# Altium footprint library GRM32ER61A107ME20L.PcbLib: 4 footprints
Each footprint in its own frame and in the unit in brackets; x right, y up, seen from the top. Pads: shape width x height; smd on the part's side, far side on the other; paste and mask are expansions set on the pad; w line width, h text height; cw(c..) or ccw(c..) is an arc to the next point about the centre after c.
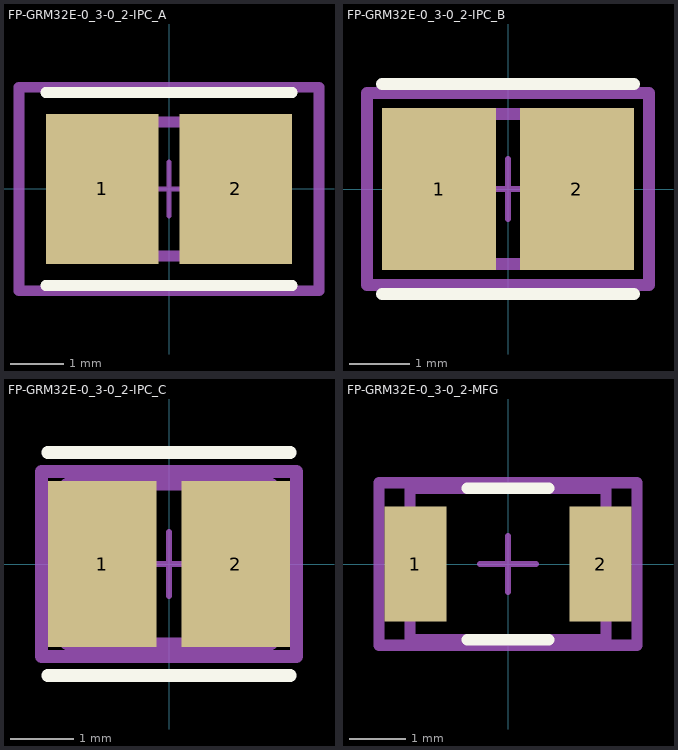
[diagram p0: the footprints below, top view; thin cyan lines are the x and y axes]

## FP-GRM32E-0_3-0_2-IPC_A [mm]
pads (2):
  rect 2.103x2.806 smd paste+0 mask+0: 1(-1.251,0) 2(1.251,0)
Top Overlay:
  lines w0.2: -2.302,-1.803 2.302,-1.803 ; -2.302,1.803 2.302,1.803
Top Assembly:
  lines w0.2: -2.802,-1.903 -2.802,1.903 2.802,1.903 2.802,-1.903 -2.802,-1.903
  text ".Designator" at 0,0.188 h1
Top 3D Body:
  lines w0.2: -1.6,-1.25 -1.6,1.25 1.6,1.25 1.6,-1.25 -1.6,-1.25
Top Courtyard:
  lines w0.2: -2.802,-1.903 -2.802,1.903 2.802,1.903 2.802,-1.903 -2.802,-1.903
Top Component Center:
  lines w0.1: -0.5,0 0.5,0 ; 0,-0.5 0,0.5
3D body "Cap_Murata_GRM32EC70G107ME15K_eec.STEP": height 0.25, standoff 0, extent -2.802,-1.903 2.802,1.903

## FP-GRM32E-0_3-0_2-IPC_B [mm]
pads (2):
  rect 1.903x2.706 smd paste+0 mask+0: 1(-1.151,0) 2(1.151,0)
Top Overlay:
  lines w0.2: -2.102,-1.753 2.102,-1.753 ; -2.102,1.753 2.102,1.753
Top Assembly:
  lines w0.2: -2.352,-1.603 2.352,-1.603 2.352,1.603 -2.352,1.603 -2.352,-1.603
  text ".Designator" at 0,0.188 h1
Top 3D Body:
  lines w0.2: -1.6,-1.25 1.6,-1.25 1.6,1.25 -1.6,1.25 -1.6,-1.25
Top Courtyard:
  lines w0.2: -2.352,-1.603 2.352,-1.603 2.352,1.603 -2.352,1.603 -2.352,-1.603
Top Component Center:
  lines w0.1: -0.5,0 0.5,0 ; 0,-0.5 0,0.5
3D body "Cap_Murata_GRM32EC70G107ME15K_eec.STEP": height 0.25, standoff 0, extent -2.352,-1.603 2.352,1.603

## FP-GRM32E-0_3-0_2-IPC_C [mm]
pads (2):
  rect 1.703x2.606 smd paste+0 mask+0: 1(-1.051,0) 2(1.051,0)
Top Overlay:
  lines w0.2: -1.902,-1.75 1.902,-1.75 ; -1.902,1.75 1.902,1.75
Top Assembly:
  lines w0.2: -2.002,-1.45 2.002,-1.45 2.002,1.45 -2.002,1.45 -2.002,-1.45
  text ".Designator" at 0,0.188 h1
Top 3D Body:
  lines w0.2: -1.6,-1.25 1.6,-1.25 1.6,1.25 -1.6,1.25 -1.6,-1.25
Top Courtyard:
  lines w0.2: -2.002,-1.45 2.002,-1.45 2.002,1.45 -2.002,1.45 -2.002,-1.45
Top Component Center:
  lines w0.1: -0.5,0 0.5,0 ; 0,-0.5 0,0.5
3D body "Cap_Murata_GRM32EC70G107ME15K_eec.STEP": height 0.25, standoff 0, extent -2.002,-1.45 2.002,1.45

## FP-GRM32E-0_3-0_2-MFG [mm]
pads (2):
  rect 1.1x2.05 smd paste+0 mask+0: 1(-1.65,0) 2(1.65,0)
Top Overlay:
  lines w0.2: -0.725,-1.35 0.725,-1.35 ; -0.725,1.35 0.725,1.35
Top Assembly:
  lines w0.2: -2.3,-1.45 2.3,-1.45 2.3,1.45 -2.3,1.45 -2.3,-1.45
  text ".Designator" at 0,0.188 h1
Top 3D Body:
  lines w0.2: -1.75,-1.35 1.75,-1.35 1.75,1.35 -1.75,1.35 -1.75,-1.35
Top Courtyard:
  lines w0.2: -2.3,-1.45 2.3,-1.45 2.3,1.45 -2.3,1.45 -2.3,-1.45
Top Component Center:
  lines w0.1: -0.5,0 0.5,0 ; 0,-0.5 0,0.5
3D body "Cap_Murata_GRM32EC70G107ME15K_eec.STEP": height 0.25, standoff 0, extent -2.3,-1.45 2.3,1.45